# Altium schematic symbol library Microchip.SchLib: 8 symbols
Pins are listed as number, name and electrical type; pins without a type are passive.

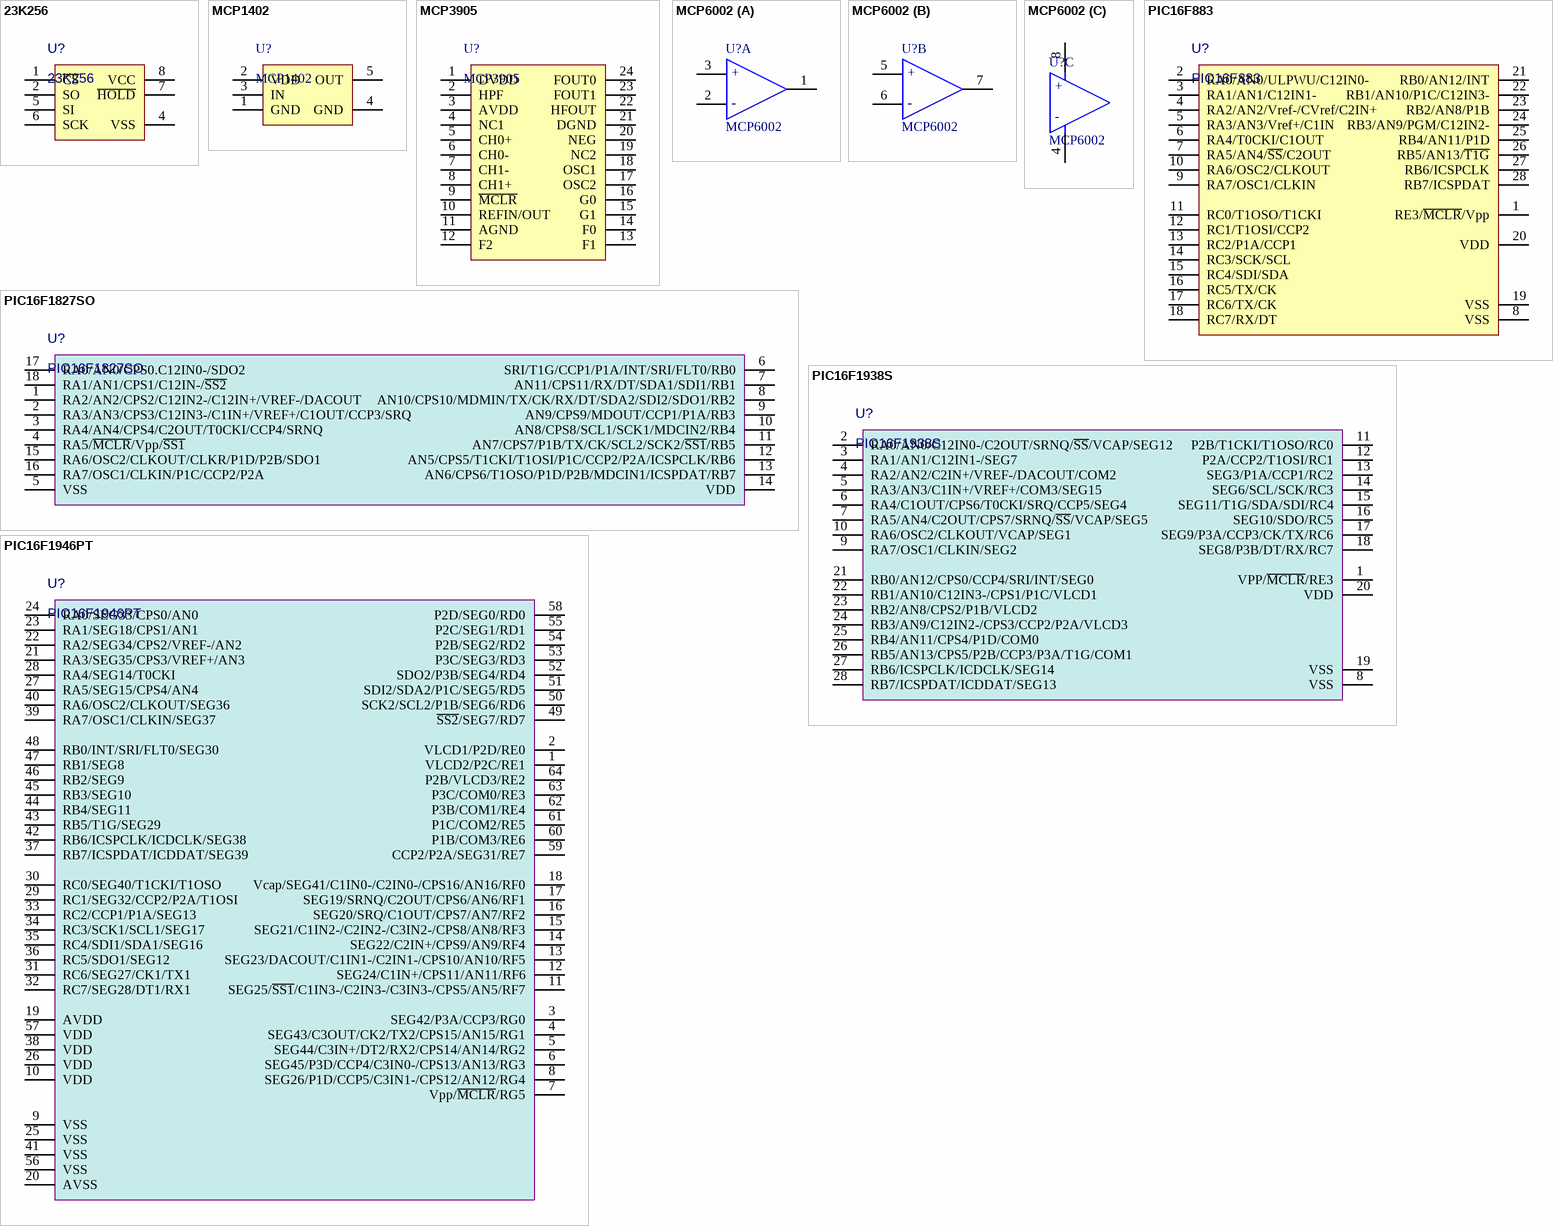
[diagram p0: symbols 23K256 to PIC16F1946PT]

## 23K256
designator U?
Value: 23K256; SupplierChoice: *
pins: 1 ~{CS}, 2 SO, 4 VSS, 5 SI, 6 SCK, 7 ~{HOLD}, 8 VCC

## MCP1402
designator U?
Value: MCP1402
pins: 1 GND, 2 VDD, 3 IN, 4 GND, 5 OUT

## MCP3905
designator U?
Value: MCP3905
pins: 1 DVDD, 2 HPF, 3 AVDD, 4 NC1, 5 CH0+, 6 CH0-, 7 CH1-, 8 CH1+, 9 ~{MCLR}, 10 REFIN/OUT, 11 AGND, 12 F2, 13 F1, 14 F0, 15 G1, 16 G0, 17 OSC2, 18 OSC1, 19 NC2, 20 NEG, 21 DGND, 22 HFOUT, 23 FOUT1, 24 FOUT0

## MCP6002
designator U?
Value: MCP6002
part A pins: 1 OUTPUT, 2 MINUS INPUT, 3 PLUS INPUT
part B pins: 5 PLUS INPUT, 6 MINUS INPUT, 7 OUTPUT
part C pins: 4 MINUS V, 8 PLUS V
1 alternate drawing of the same symbol
part A text: +; -
part B text: +; -
part C text: +; -

## PIC16F883
designator U?
Value: PIC16F883
pins: 1 RE3/~{MCLR}/Vpp, 2 RA0/AN0/ULPWU/C12IN0-, 3 RA1/AN1/C12IN1-, 4 RA2/AN2/Vref-/CVref/C2IN+, 5 RA3/AN3/Vref+/C1IN, 6 RA4/T0CKI/C1OUT, 7 RA5/AN4/~{SS}/C2OUT, 8 VSS, 9 RA7/OSC1/CLKIN, 10 RA6/OSC2/CLKOUT, 11 RC0/T1OSO/T1CKI, 12 RC1/T1OSI/CCP2, 13 RC2/P1A/CCP1, 14 RC3/SCK/SCL, 15 RC4/SDI/SDA, 16 RC5/TX/CK, 17 RC6/TX/CK, 18 RC7/RX/DT, 19 VSS, 20 VDD, 21 RB0/AN12/INT, 22 RB1/AN10/P1C/C12IN3-, 23 RB2/AN8/P1B, 24 RB3/AN9/PGM/C12IN2-, 25 RB4/AN11/P1D, 26 RB5/AN13/~{T1G}, 27 RB6/ICSPCLK, 28 RB7/ICSPDAT

## PIC16F1827SO
designator U?
Value: PIC16F1827SO
pins: 1 RA2/AN2/CPS2/C12IN2-/C12IN+/VREF-/DACOUT, 2 RA3/AN3/CPS3/C12IN3-/C1IN+/VREF+/C1OUT/CCP3/SRQ, 3 RA4/AN4/CPS4/C2OUT/T0CKI/CCP4/SRNQ, 4 RA5/~{MCLR}/Vpp/~{SS1}, 5 VSS, 6 SRI/T1G/CCP1/P1A/INT/SRI/FLT0/RB0, 7 AN11/CPS11/RX/DT/SDA1/SDI1/RB1, 8 AN10/CPS10/MDMIN/TX/CK/RX/DT/SDA2/SDI2/SDO1/RB2, 9 AN9/CPS9/MDOUT/CCP1/P1A/RB3, 10 AN8/CPS8/SCL1/SCK1/MDCIN2/RB4, 11 AN7/CPS7/P1B/TX/CK/SCL2/SCK2/~{SS1}/RB5, 12 AN5/CPS5/T1CKI/T1OSI/P1C/CCP2/P2A/ICSPCLK/RB6, 13 AN6/CPS6/T1OSO/P1D/P2B/MDCIN1/ICSPDAT/RB7, 14 VDD, 15 RA6/OSC2/CLKOUT/CLKR/P1D/P2B/SDO1, 16 RA7/OSC1/CLKIN/P1C/CCP2/P2A, 17 RA0/AN0/CPS0.C12IN0-/SDO2, 18 RA1/AN1/CPS1/C12IN-/~{SS2}

## PIC16F1938S
designator U?
Value: PIC16F1938S
pins: 1 VPP/~{MCLR}/RE3, 2 RA0/AN0/C12IN0-/C2OUT/SRNQ/~{SS}/VCAP/SEG12, 3 RA1/AN1/C12IN1-/SEG7, 4 RA2/AN2/C2IN+/VREF-/DACOUT/COM2, 5 RA3/AN3/C1IN+/VREF+/COM3/SEG15, 6 RA4/C1OUT/CPS6/T0CKI/SRQ/CCP5/SEG4, 7 RA5/AN4/C2OUT/CPS7/SRNQ/~{SS}/VCAP/SEG5, 8 VSS, 9 RA7/OSC1/CLKIN/SEG2, 10 RA6/OSC2/CLKOUT/VCAP/SEG1, 11 P2B/T1CKI/T1OSO/RC0, 12 P2A/CCP2/T1OSI/RC1, 13 SEG3/P1A/CCP1/RC2, 14 SEG6/SCL/SCK/RC3, 15 SEG11/T1G/SDA/SDI/RC4, 16 SEG10/SDO/RC5, 17 SEG9/P3A/CCP3/CK/TX/RC6, 18 SEG8/P3B/DT/RX/RC7, 19 VSS, 20 VDD, 21 RB0/AN12/CPS0/CCP4/SRI/INT/SEG0, 22 RB1/AN10/C12IN3-/CPS1/P1C/VLCD1, 23 RB2/AN8/CPS2/P1B/VLCD2, 24 RB3/AN9/C12IN2-/CPS3/CCP2/P2A/VLCD3, 25 RB4/AN11/CPS4/P1D/COM0, 26 RB5/AN13/CPS5/P2B/CCP3/P3A/T1G/COM1, 27 RB6/ICSPCLK/ICDCLK/SEG14, 28 RB7/ICSPDAT/ICDDAT/SEG13

## PIC16F1946PT
designator U?
Value: PIC16F1946PT
pins: 1 VLCD2/P2C/RE1, 2 VLCD1/P2D/RE0, 3 SEG42/P3A/CCP3/RG0, 4 SEG43/C3OUT/CK2/TX2/CPS15/AN15/RG1, 5 SEG44/C3IN+/DT2/RX2/CPS14/AN14/RG2, 6 SEG45/P3D/CCP4/C3IN0-/CPS13/AN13/RG3, 7 Vpp/~{MCLR}/RG5, 8 SEG26/P1D/CCP5/C3IN1-/CPS12/AN12/RG4, 9 VSS, 10 VDD, 11 SEG25/~{SS1}/C1IN3-/C2IN3-/C3IN3-/CPS5/AN5/RF7, 12 SEG24/C1IN+/CPS11/AN11/RF6, 13 SEG23/DACOUT/C1IN1-/C2IN1-/CPS10/AN10/RF5, 14 SEG22/C2IN+/CPS9/AN9/RF4, 15 SEG21/C1IN2-/C2IN2-/C3IN2-/CPS8/AN8/RF3, 16 SEG20/SRQ/C1OUT/CPS7/AN7/RF2, 17 SEG19/SRNQ/C2OUT/CPS6/AN6/RF1, 18 Vcap/SEG41/C1IN0-/C2IN0-/CPS16/AN16/RF0, 19 AVDD, 20 AVSS, 21 RA3/SEG35/CPS3/VREF+/AN3, 22 RA2/SEG34/CPS2/VREF-/AN2, 23 RA1/SEG18/CPS1/AN1, 24 RA0/SEG33/CPS0/AN0, 25 VSS, 26 VDD, 27 RA5/SEG15/CPS4/AN4, 28 RA4/SEG14/T0CKI, 29 RC1/SEG32/CCP2/P2A/T1OSI, 30 RC0/SEG40/T1CKI/T1OSO, 31 RC6/SEG27/CK1/TX1, 32 RC7/SEG28/DT1/RX1, 33 RC2/CCP1/P1A/SEG13, 34 RC3/SCK1/SCL1/SEG17, 35 RC4/SDI1/SDA1/SEG16, 36 RC5/SDO1/SEG12, 37 RB7/ICSPDAT/ICDDAT/SEG39, 38 VDD, 39 RA7/OSC1/CLKIN/SEG37, 40 RA6/OSC2/CLKOUT/SEG36, 41 VSS, 42 RB6/ICSPCLK/ICDCLK/SEG38, 43 RB5/T1G/SEG29, 44 RB4/SEG11, 45 RB3/SEG10, 46 RB2/SEG9, 47 RB1/SEG8, 48 RB0/INT/SRI/FLT0/SEG30, 49 ~{SS2}/SEG7/RD7, 50 SCK2/SCL2/P1B/SEG6/RD6, 51 SDI2/SDA2/P1C/SEG5/RD5, 52 SDO2/P3B/SEG4/RD4, 53 P3C/SEG3/RD3, 54 P2B/SEG2/RD2, 55 P2C/SEG1/RD1, 56 VSS, 57 VDD, 58 P2D/SEG0/RD0, 59 CCP2/P2A/SEG31/RE7, 60 P1B/COM3/RE6, 61 P1C/COM2/RE5, 62 P3B/COM1/RE4, 63 P3C/COM0/RE3, 64 P2B/VLCD3/RE2